# Altium footprint library Diode.PcbLib: 34 footprints (part 3 of 3)
Each footprint in its own frame and in the unit in brackets; x right, y up, seen from the top. Pads: shape width x height; smd on the part's side, far side on the other; paste and mask are expansions set on the pad; w line width, h text height; cw(c..) or ccw(c..) is an arc to the next point about the centre after c.
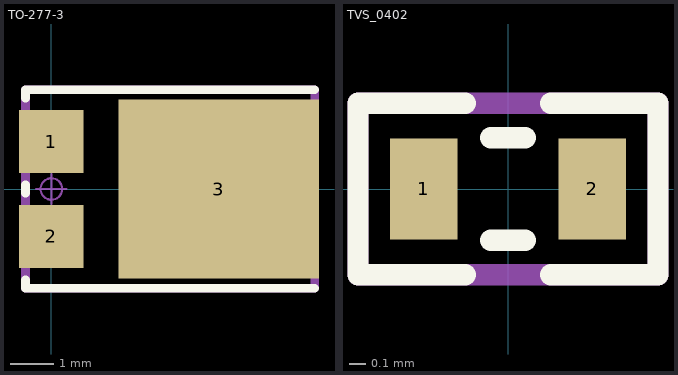
[diagram p2: the footprints below, top view; thin cyan lines are the x and y axes]

## TO-277-3 [mm] "FSV8100V"
height 1.08
pads (3):
  rect 1.5x1.45 smd: 1(0,1.1) 2(0,-1.1)
  rect 4.65x4.15 smd: 3(3.875,0)
Top Overlay:
  lines w0.2: -0.6,-2.1 -0.6,-2.3 6.1,-2.3 ; -0.6,-0.1 -0.6,0.1 ; -0.6,2.1 -0.6,2.3 6.1,2.3
Mechanical 13:
  lines w0.2: -0.6,-2.3 6.1,-2.3 6.1,2.3 -0.6,2.3 -0.6,-2.3
  text ".Designator" at 0,0 h1.2
Mechanical 15:
  circle w0.05: c0,0 r0.25
  lines w0.05: -0.35,0 0.35,0 ; 0,-0.35 0,0.35
  lines w0.2: -0.6,-2.3 6.1,-2.3 6.1,2.3 -0.6,2.3 -0.6,-2.3
  text ".Comment" at 0,0 h0.64
3D body "User Library-TO-277A.STEP": height 1.2, standoff 0, extent -0.57,-2.375 6.08,2.375

## TVS_0402 [mm]
pads (2):
  rect 0.4x0.6 smd: 1(-0.502,0) 2(0.498,0)
Top Overlay:
  lines w0.127: -0.256,-0.508 -0.891,-0.508 -0.891,0.508 -0.256,0.508 ; -0.103,-0.305 0.1,-0.305 ; -0.103,0.305 0.1,0.305 ; 0.252,-0.508 0.887,-0.508 0.887,0.508 0.252,0.508
Mechanical 13:
  lines w0.127: -0.891,-0.508 0.887,-0.508 0.887,0.508 -0.891,0.508 -0.891,-0.508
Mechanical 15:
  lines w0.127: -0.891,-0.508 0.887,-0.508 0.887,0.508 -0.891,0.508 -0.891,-0.508
3D body "User Library-0402 SMD Capacitor.step": height 0.2, standoff 0, extent -0.502,-0.3 0.498,0.3